# Altium schematic symbol library 8-338069-8.SchLib: 1 symbol
Pins are listed as number, name and electrical type; pins without a type are passive.

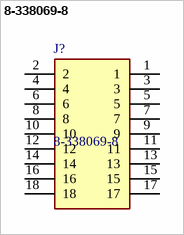
[diagram p0: symbol 8-338069-8]

## 8-338069-8
designator J?
Body Features: Primary Product Color Red | Connector Profile Standard | Daisy Chain Without | Configuration Features: Number of Rows 2 | PCB Mount Orientation Vertical | Number of Positions 18 | Contact Features: PCB Contact Termination Area Plating Material Thickness 118.11  196.85 MICIN | Contact Underplating Material Nickel | Contact Current Rating (Max) 1.5 AMP | Contact Mating Area Plating Material Thickness 118.11  196.85 MICIN | Contact Mating Area Plating Material Tin | Contact Type Socket | C; Manufacturer_Name: TE Connectivity; Geometry.Height: 5.3mm; Manufacturer_Part_Number: 8-338069-8; Mouser Part Number: 571-8-338069-8; Mouser Price/Stock: https://www.mouser.co.uk/ProductDetail/TE-Connectivity/8-338069-8?qs=rb%252BOsUuIftz87g6y3haTiw%3D%3D; Arrow Part Number: 8-338069-8; Arrow Price/Stock: https://www.arrow.com/en/products/8-338069-8/te-connectivity?region=nac; Datasheet Link: https://www.te.com/commerce/DocumentDelivery/DDEController?Action=srchrtrv&DocNm=4-1773457-1_050_Micro_MaTch&DocType=Data%20Sheet&DocLang=English&PartCntxt=8-338069-8&DocFormat=pdf
footprint 83380698
pins: 1, 2, 3, 4, 5, 6, 7, 8, 9, 10, 11, 12, 13, 14, 15, 16, 17, 18